# Altium schematic symbol library DRV8874.SchLib: 1 symbol
Pins are listed as number, name and electrical type; pins without a type are passive.

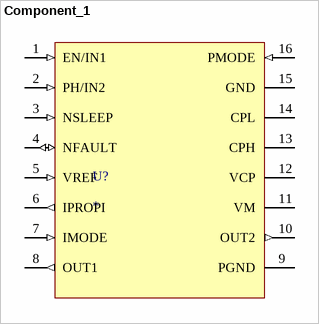
[diagram p0: symbol Component_1]

## Component_1
designator U?
footprint DRV8874
pins: 1 EN/IN1 (in), 2 PH/IN2 (in), 3 NSLEEP (in), 4 NFAULT (io), 5 VREF (in), 6 IPROPI (out), 7 IMODE (in), 8 OUT1 (out), 9 PGND (power), 10 OUT2 (out), 11 VM (power), 12 VCP (power), 13 CPH (power), 14 CPL (power), 15 GND (power), 16 PMODE (in)